# Altium footprint library FV1206.PcbLib: 1 footprints
Each footprint in its own frame and in the unit in brackets; x right, y up, seen from the top. Pads: shape width x height; smd on the part's side, far side on the other; paste and mask are expansions set on the pad; w line width, h text height; cw(c..) or ccw(c..) is an arc to the next point about the centre after c.
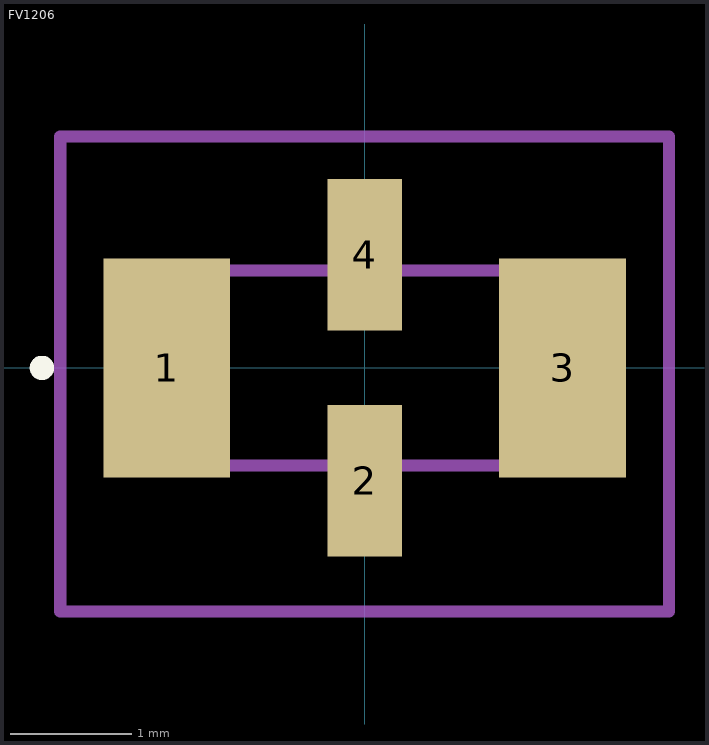
[diagram p0: the footprint, top view; thin cyan lines are the x and y axes]

## FV1206 [mm]
pads (4):
  rect 1.04x1.8 smd: 1(-1.625,0) 3(1.625,0)
  rect 0.61x1.245 smd: 2(0,-0.928) 4(0,0.928)
Top Overlay:
  lines w0.1: -2.7,0 ccw(c-2.65,0) -2.6,0 ccw(c-2.65,0) -2.7,0
Top Courtyard:
  lines w0.1: -1.6,-0.8 -1.6,0.8 ; -1.6,-0.8 -1.6,0.8 ; -1.6,-0.8 1.6,-0.8 ; -1.6,0.8 1.6,0.8 ; 1.6,-0.8 1.6,0.8 ; 1.6,-0.8 1.6,0.8
Mechanical 15:
  lines w0.1: -2.5,-2 2.5,-2 2.5,1.9 -2.5,1.9 -2.5,-2
3D body: height 0.95, standoff 0, extent -0.3,-0.81 0.3,-0.71
3D body: height 0.95, standoff 0, extent -1.6,-0.81 -1.1,0.81
3D body: height 0.95, standoff 0, extent -0.3,0.71 0.3,0.81
3D body: height 0.95, standoff 0, extent 1.1,-0.81 1.6,0.81
3D body: height 0.94, standoff 0, extent -1.35,-0.8 1.35,0.8